# EAGLE library part 74*59 (library 74xx-eu)
Devide by-N-Counter 74HC/HCT4059 Source: www.standardics.nxp.com/products/hc/datasheet/74hc4059.pdf
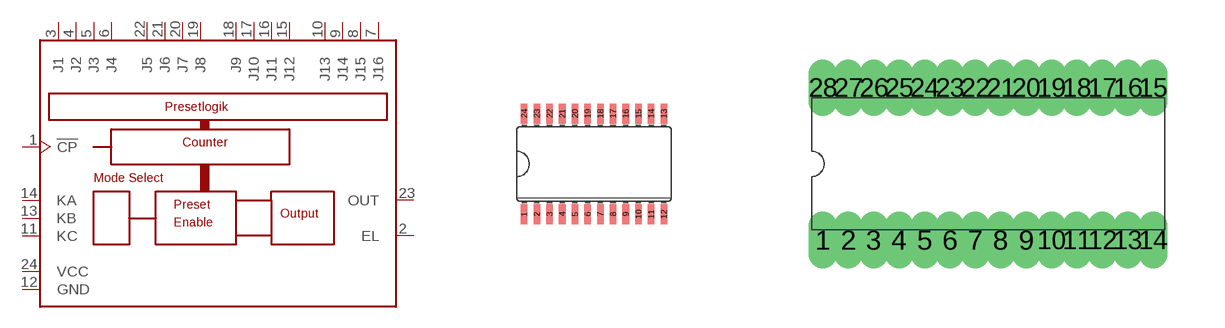
[diagram p42: symbol with the pads of SO24W; footprints SO24W, DIL28-6]

Designator prefix IC

## 7459D, 74HC59D, 74HCT59D  [SO24W]
1  !CP  in
2  EL  in
3  J1  in
4  J2  in
5  J3  in
6  J4  in
7  J16  in
8  J15  in
9  J14  in
10  J13  in
11  KC  in
12  GND  pwr
13  KB  in
14  KA  in
15  J12  in
16  J11  in
17  J10  in
18  J9  in
19  J8  in
20  J7  in
21  J6  in
22  J5  in
23  OUT  out
24  VCC  pwr

## 7459N, 74HC59N, 74HCT59N  [DIL28-6]
Pads as for SO24W

## 7459N3, 74HC59N3, 74HCT59N3  [DIL28-3]
Pads as for SO24W

## Footprint SO24W (pad centres in mm)
Wide Small Outline package 300 mil
smd 0.165 x 0.508: 1 -1.746,-1.257; 2 -1.429,-1.257; 3 -1.111,-1.257; 4 -0.794,-1.257; 5 -0.476,-1.257; 6 -0.159,-1.257; 7 0.159,-1.257; 8 0.476,-1.257; 9 0.794,-1.257; 10 1.111,-1.257; 11 1.429,-1.257; 12 1.746,-1.257; 13 1.746,1.257; 14 1.429,1.257; 15 1.111,1.257; 16 0.794,1.257; 17 0.476,1.257; 18 0.159,1.257; 19 -0.159,1.257; 20 -0.476,1.257; 21 -0.794,1.257; 22 -1.111,1.257; 23 -1.429,1.257; 24 -1.746,1.257

## Footprint DIL28-6 (pad centres in mm)
Dual In Line Package 0.6 inch
drill 0.203 long: 1 -4.128,-1.905; 2 -3.493,-1.905; 3 -2.857,-1.905; 4 -2.223,-1.905; 5 -1.587,-1.905; 6 -0.953,-1.905; 7 -0.318,-1.905; 8 0.318,-1.905; 9 0.953,-1.905; 10 1.587,-1.905; 11 2.223,-1.905; 12 2.857,-1.905; 13 3.493,-1.905; 14 4.128,-1.905; 15 4.128,1.905; 16 3.493,1.905; 17 2.857,1.905; 18 2.223,1.905; 19 1.587,1.905; 20 0.953,1.905; 21 0.318,1.905; 22 -0.318,1.905; 23 -0.953,1.905; 24 -1.587,1.905; 25 -2.223,1.905; 26 -2.857,1.905; 27 -3.493,1.905; 28 -4.128,1.905

## Footprint DIL28-3 (pad centres in mm)
Dual In Line Package Small
drill 0.203 long: 1 -4.128,-0.953; 2 -3.493,-0.953; 3 -2.857,-0.953; 4 -2.223,-0.953; 5 -1.587,-0.953; 6 -0.953,-0.953; 7 -0.318,-0.953; 8 0.318,-0.953; 9 0.953,-0.953; 10 1.587,-0.953; 11 2.223,-0.953; 12 2.857,-0.953; 13 3.493,-0.953; 14 4.128,-0.953; 15 4.128,0.953; 16 3.493,0.953; 17 2.857,0.953; 18 2.223,0.953; 19 1.587,0.953; 20 0.953,0.953; 21 0.318,0.953; 22 -0.318,0.953; 23 -0.953,0.953; 24 -1.587,0.953; 25 -2.223,0.953; 26 -2.857,0.953; 27 -3.493,0.953; 28 -4.128,0.953